# Altium schematic symbol library PPPC101LGBN-RC.SchLib: 2 symbols
Pins are listed as number, name and electrical type; pins without a type are passive.

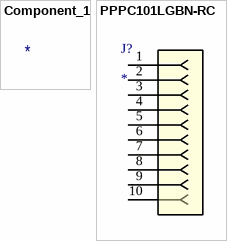
[diagram p0: symbols Component_1 to PPPC101LGBN-RC]

## Component_1
designator *  (value not drawn)

## PPPC101LGBN-RC
designator J?
No Description Available; Mfr_Name: Sullins; RefDes: RefDes; Type: Type
footprint CONN10_1LGBN-RC_SUL
pins: 1, 2, 3, 4, 5, 6, 7, 8, 9, 10